# Altium schematic symbol library subhardware.SchLib: 10 symbols
Pins are listed as number, name and electrical type; pins without a type are passive.

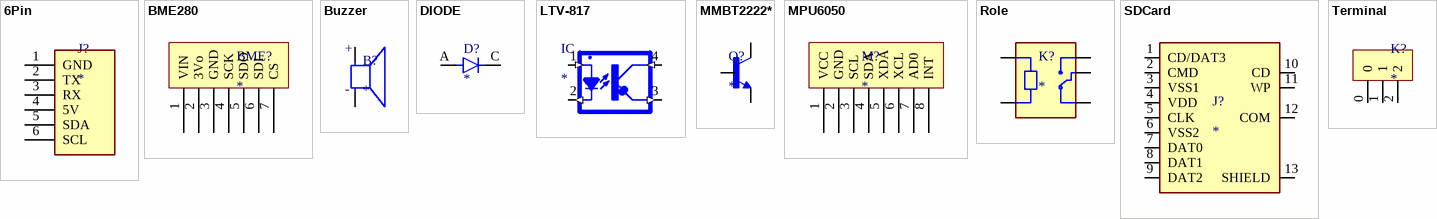
[diagram p0: symbols 6Pin to Terminal]

## 6Pin
designator J?
Connector Header Through Hole 2 position 0.098 (2.50mm); MF: JST Sales; MP: B2B-XH-A(LF)(SN); Value: *; Check_prices: https://www.snapeda.com/parts/B2B-XH-A(LF)(SN)/JST%20Sales%20America%20Inc./view-part/492310/?ref=eda; Price: None; Package: None; Availability: In Stock; SnapEDA_Link: https://www.snapeda.com/parts/B2B-XH-A(LF)(SN)/JST%20Sales%20America%20Inc./view-part/492310/?ref=snap; ComponentLink1Description: New link; ComponentLink1URL: https://www.dronmarket.com/tr/urun/ublox-neo-m8n-gps-modul; ComponentLink2Description: New link 1; ComponentLink2URL: *
footprint JST_B6B-XH-A(LF)(SN)
pins: 1 GND, 2 TX, 3 RX, 4 5V, 5 SDA, 6 SCL

## BME280
designator BME?
footprint BME280
pins: 1 VIN, 2 3Vo, 3 GND, 4 SCK, 5 SDO, 6 SDI, 7 CS

## Buzzer
designator B?
9.6 mm, 3 Vdc, 80 dB, Through Hole, Driving Circuit, Magnetic Audio Indicator Buzzer; MP: CMI-9605IC-0380T; MF: CUI Devices; Availability: Unavailable; SnapEDA_Link: https://www.snapeda.com/parts/CMI-9605IC-0380T/CUI%20Devices/view-part/4413414/?ref=snap; Value: *; Package: Package; Price: None
footprint BUZZ
pins: N, P
text: +; -

## DIODE
designator D?
Diode Standard 100V 200mA Surface Mount SOD-80; MP: FDLL4148; MF: {'manufacturer': u'ON Semiconductor'}; Value: *; Price: None; Package: None; Availability: Unavailable
footprint DIODE
pins: A, C

## LTV-817
designator IC
Optoisolator Transistor Output 5000Vrms 1 Channel 4-SMD; MF: Lite-On Electronics; MP: LTV-817; SnapEDA_Link: https://www.snapeda.com/parts/LTV-817/ICS/view-part/4478599/?ref=snap; Price: None; Value: *; Availability: Unavailable; Package: DIP-4 Lite-On Electronics
footprint OPTO
pins: 1 (in), 2 (out), 3 (out), 4 (in)

## MMBT2222*
designator Q?
<b>NPN Transistor</b>; MP: MMBT2222-; MF: {'manufacturer': u'ON Semiconductor'}; Package: None; Price: None; Availability: Unavailable; Value: *
footprint SOT23-BEC
pins: B, C, E

## MPU6050
designator M?
footprint MPU6050
pins: 1 VCC, 2 GND, 3 SCL, 4 SDA, 5 XDA, 6 XCL, 7 AD0, 8 INT

## Role
designator K?
5V Trigger Relay Module For Arduino And Raspberry Pi 5V Trigger Relay Module For Arduino And Raspberry Pi; MP: SRD-05VDC-SL-C; MF: {'manufacturer': u'Songle Relay'}; Package: None; Price: None; Availability: Unavailable; Value: *
footprint RELAY_SRD-05VDC-SL-C
pins: A1, A2, COM, NC, NO

## SDCard
designator J?
12 _9 + 3_ Position Card Connector Secure Digital - SD Surface Mount, Right Angle Gold; MF: Hirose; MP: DM1AA-SF-PEJ_21_; Package: None; Digi-Key_Part_Number: HR845DKR-ND; Value: *; SnapEDA_Link: https://www.snapeda.com/parts/DM1AA-SF-PEJ%2821%29/Hirose%20Electric%20Co%20Ltd/view-part/480334/?ref=snap; Digi-Key_Purchase_URL: https://www.digikey.com/product-detail/en/hirose-electric-co-ltd/DM1AA-SF-PEJ_21_/HR845DKR-ND/1828681?utm_source=snapeda&utm_medium=aggregator&utm_campaign=symbol
footprint sdcard
pins: 1 CD/DAT3 (io), 2 CMD (io), 3 VSS1 (power), 4 VDD (power), 5 CLK (io), 6 VSS2 (power), 7 DAT0 (io), 8 DAT1 (io), 9 DAT2 (io), 10 CD, 11 WP, 12 COM, 13 SHIELD

## Terminal
designator K?
Klemens
footprint klemens
pins: 0, 1, 2